# Altium schematic symbol library 3.电磁巡线运算原理图库.SCHLIB: 9 symbols
Pins are listed as number, name and electrical type; pins without a type are passive.

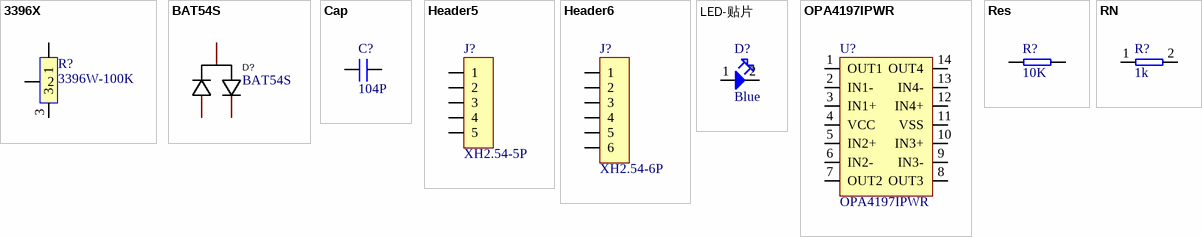
[diagram p0: symbols 3396X to RN]

## 3396X
designator R?, comment 3396W-100K
footprint 3296W
pins: 1, 2, 3

## BAT54S
designator D?
Manufacturer: MDD; Symbol: BAT54S_C408389; Add into BOM: yes; Name: BAT54S; Device: BAT54S_C408389; LCSC Part Name: BAT54S; Supplier Part: C408389; Manufacturer Part: BAT54S; Supplier Footprint: SOT-23; JLCPCB Part Class: Extended Part; Datasheet: https://atta.szlcsc.com/upload/public/pdf/source/20190802/C408389_166B3A03AD5F9CE71E41D936854B7BE7.pdf; Supplier: LCSC; Convert to PCB: yes
footprint SOT-23-3
pins: 1, 2, 3

## Cap
designator C?, comment 104P
footprint C0402 (Footprint not found)
footprint C0603
footprint C0805
footprint C1206
footprint C1210
footprint C1808 (Footprint not found)
pins: 1, 2

## Header5
designator J?, comment XH2.54-5P
footprint XH2.54-WI-5P (接插件，5P)
pins: 1, 2, 3, 4, 5

## Header6
designator J?, comment XH2.54-6P
footprint XH2.54-WI-6P (接插件，6P)
pins: 1, 2, 3, 4, 5, 6

## LED-贴片
designator D?, comment Blue
footprint D0603-B
footprint D0603-G
footprint D0603-R
footprint D0603-Y
footprint D3528
footprint D0603 CT
pins: 1, 2

## OPA4197IPWR
designator U?
footprint TSSOP-14
pins: 1 OUT1, 2 IN1-, 3 IN1+, 4 VCC, 5 IN2+, 6 IN2-, 7 OUT2, 8 OUT3, 9 IN3-, 10 IN3+, 11 VSS, 12 IN4+, 13 IN4-, 14 OUT4

## Res
designator R?, comment 10K
footprint R0402
footprint R0603
footprint R0805
footprint R1206
footprint R1210
footprint R1808
footprint R2512
pins: 1, 2

## RN
designator R?, comment 1k
footprint R0603
pins: 1, 2